# Altium footprint library FUSE_5X20+HOLDER.PcbLib: 1 footprints
Each footprint in its own frame and in the unit in brackets; x right, y up, seen from the top. Pads: shape width x height; smd on the part's side, far side on the other; paste and mask are expansions set on the pad; w line width, h text height; cw(c..) or ccw(c..) is an arc to the next point about the centre after c.
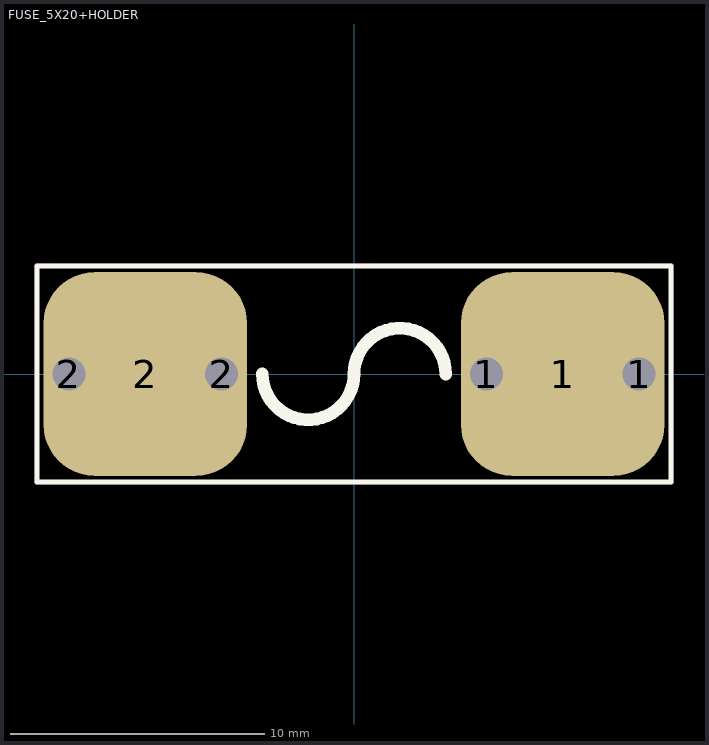
[diagram p0: the footprint, top view; thin cyan lines are the x and y axes]

## FUSE_5X20+HOLDER [mm]
pads (6):
  round 2 hole 1.3: 1(5.2,0) 1(11.2,0) 2(-11.2,0) 2(-5.2,0)
  rrect50% 8x8 smd: 1(8.2,0) 2(-8.2,0)
Top Overlay:
  lines w0.2: -12.45,-4.25 -12.45,4.25 12.45,4.25 12.45,-4.25 -12.45,-4.25
  lines w0.5: -3.6,0 ccw(c-1.8,0) 0,0 cw(c1.8,0) 3.6,0
Top Courtyard:
  lines w0.1: -12.5,-4.3 -12.5,4.3 12.5,4.3 12.5,-4.3 -12.5,-4.3
3D body "User Library-Fuse Leg_2009.step": height 9.6, standoff -3.3, extent -11.198,-3.095 -5.102,3.095
3D body "User Library-20mm_fuse.step": height 8.9, standoff 3.9, extent -10,-2.5 10,2.5
3D body "User Library-Fuse Leg_2009.step": height 9.6, standoff -3.3, extent 5.102,-3.095 11.198,3.095